# EAGLE library part PASCO2V01 (library xensiv_pas)
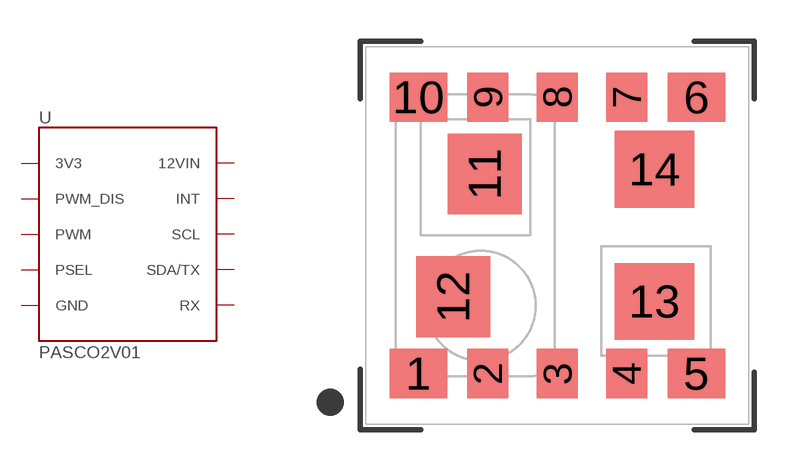
[diagram p0: symbol with the pads of LG-MLGA-14-1_Z8B00206105; footprint LG-MLGA-14-1_Z8B00206105]

Designator prefix U

## PASCO2V01 (PROD_ID: IC-19132; VALUE: PASCO2V01BUMA1)  [LG-MLGA-14-1_Z8B00206105]
1  3V3
2  RX
3  SCL
4  SDA/TX
5  PWM_DIS
6  GND
7  INT
8  PSEL
9  PWM
10  12VIN
11  GND
12  GND
13  GND
14  GND

## Footprint LG-MLGA-14-1_Z8B00206105 (pad centres in mm)
smd 2.1 x 1.8: 1 -5.08,-5.05; 5 5.08,-5.05; 6 5.08,5.05; 10 -5.08,5.05
smd 1.5 x 1.8: 2 -2.54,-5.05; 3 0,-5.05; 4 2.54,-5.05; 7 2.54,5.05; 8 0,5.05; 9 -2.54,5.05
smd 2.7 x 2.95: 11 -2.655,2.245; 12 -3.805,-2.245
smd 2.9 x 2.8: 13 3.55,-2.415; 14 3.55,2.415